# Altium integrated library Renesas Microcontroller H8S.IntLib: 670 symbols (part 38 of 70)
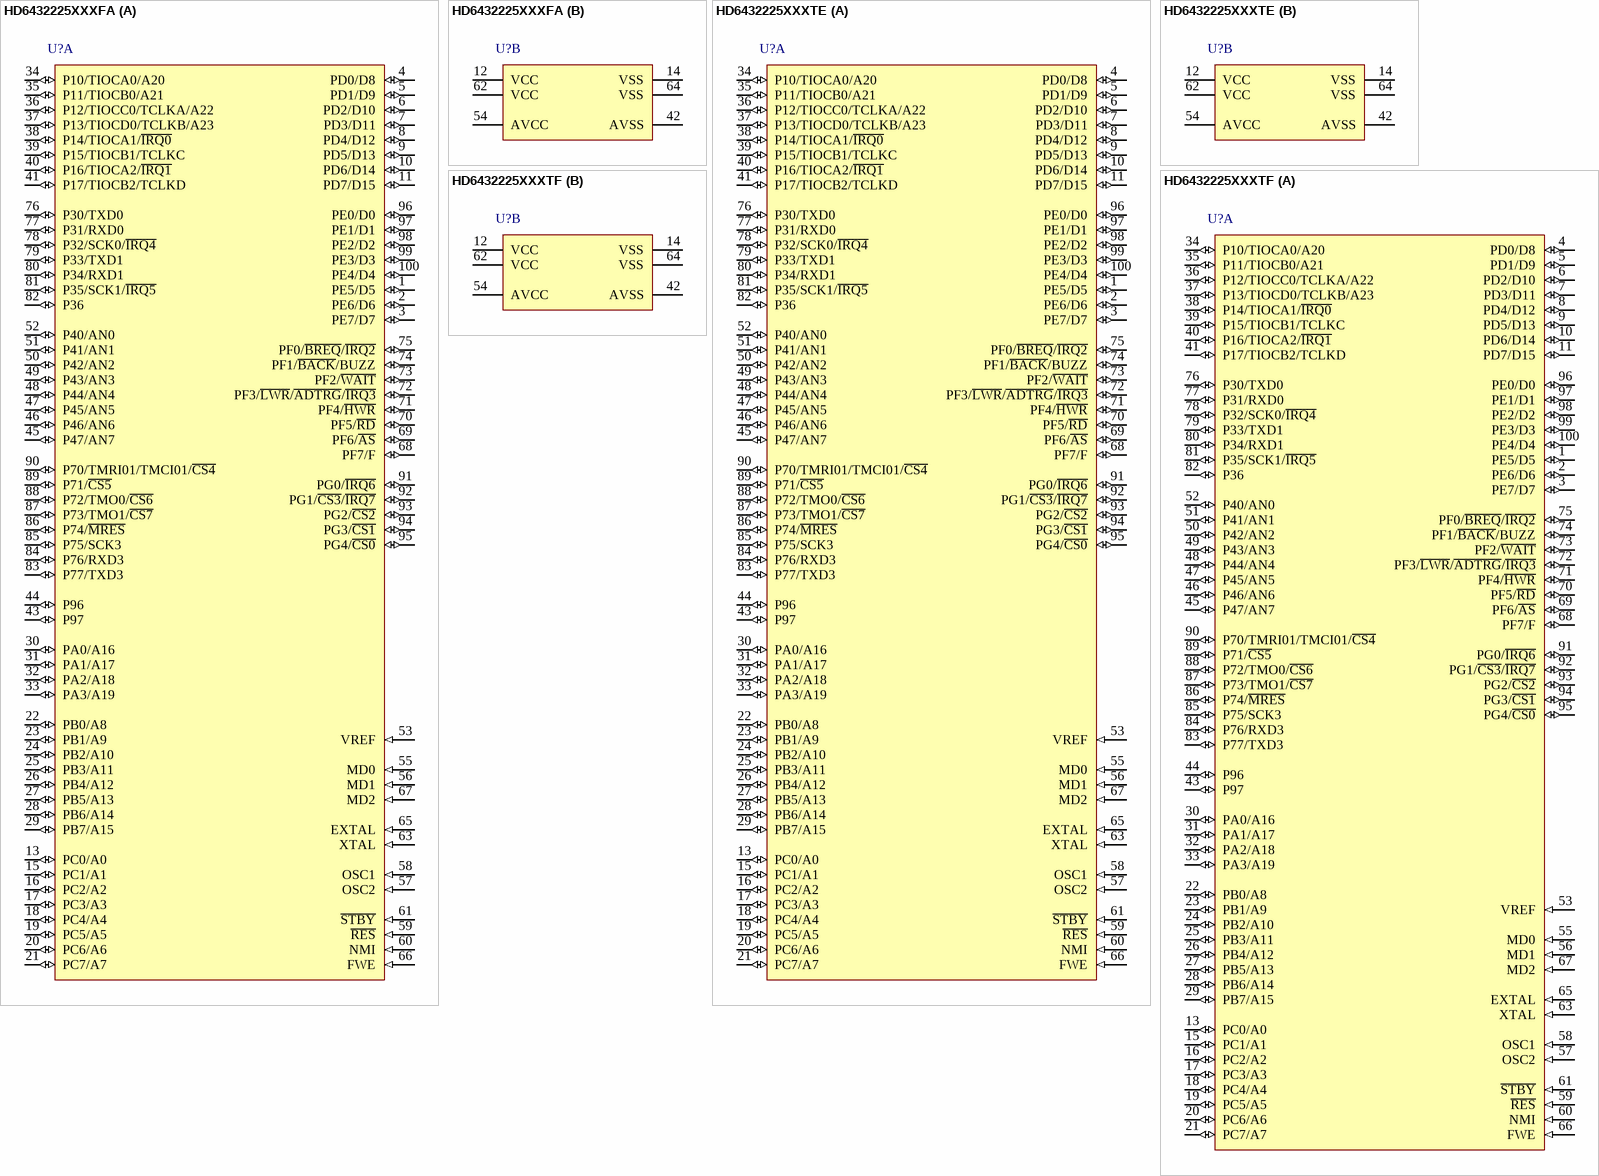
[diagram p363: symbols HD6432225XXXFA to HD6432225XXXTF]

## HD6432225XXXTF
designator U?
Mask ROM H8S/2200 Series, 2227 Group MCU, 128K ROM, 4K RAM, TFP-100G Pkg; Published: 28-Aug-2009; DatasheetVersion: Rev.5.00, Aug-2006; PackageVersion: Sep-2005; PackageReference: PTQP0100LC-A; Publisher: Altium Limited; PackageDescription: 100-Pin Plastic Thin QFP, 12 x 12 x 1.0 mm Body, 0.4 mm Pitch; Code_JEITA: P-TQFP100-12x12-0.40; ComponentLink1Description: Manufacturer Link; ComponentLink1URL: http://sg.renesas.com/fmwk.jsp?cnt=h8s_family_landing.jsp&fp=/products/mpumcu/h8s_family/; ComponentLink2Description: Datasheet; ComponentLink2URL: http://documentation.renesas.com/eng/products/mpumcu/rej09b0054_h8s2239.pdf; ComponentLink3Description: Packaging Specification; ComponentLink3URL: http://sg.renesas.com/media/products/common_info/package/pdf/ic/code/ptqp0100lc_a.pdf
footprint PTQP0100LC-A_N (Thin QFP, 100-Leads, Body 12x12mm, Pitch 0.4mm, IPC Medium Density)
footprint PTQP0100LC-A_L (Thin QFP, 100-Leads, Body 12x12mm, Pitch 0.4mm, IPC High Density)
footprint PTQP0100LC-A_M (Thin QFP, 100-Leads, Body 12x12mm, Pitch 0.4mm, IPC Low Density)
part A pins: 1 PE5/D5 (io), 2 PE6/D6 (io), 3 PE7/D7 (io), 4 PD0/D8 (io), 5 PD1/D9 (io), 6 PD2/D10 (io), 7 PD3/D11 (io), 8 PD4/D12 (io), 9 PD5/D13 (io), 10 PD6/D14 (io), 11 PD7/D15 (io), 13 PC0/A0 (io), 15 PC1/A1 (io), 16 PC2/A2 (io), 17 PC3/A3 (io), 18 PC4/A4 (io), 19 PC5/A5 (io), 20 PC6/A6 (io), 21 PC7/A7 (io), 22 PB0/A8 (io), 23 PB1/A9 (io), 24 PB2/A10 (io), 25 PB3/A11 (io), 26 PB4/A12 (io), 27 PB5/A13 (io), 28 PB6/A14 (io), 29 PB7/A15 (io), 30 PA0/A16 (io), 31 PA1/A17 (io), 32 PA2/A18 (io), 33 PA3/A19 (io), 34 P10/TIOCA0/A20 (io), 35 P11/TIOCB0/A21 (io), 36 P12/TIOCC0/TCLKA/A22 (io), 37 P13/TIOCD0/TCLKB/A23 (io), 38 P14/TIOCA1/~{IRQ0} (io), 39 P15/TIOCB1/TCLKC (io), 40 P16/TIOCA2/~{IRQ1} (io), 41 P17/TIOCB2/TCLKD (io), 43 P97 (io), 44 P96 (io), 45 P47/AN7 (io), 46 P46/AN6 (io), 47 P45/AN5 (io), 48 P44/AN4 (io), 49 P43/AN3 (io), 50 P42/AN2 (io), 51 P41/AN1 (io), 52 P40/AN0 (io), 53 VREF (in), 55 MD0 (in), 56 MD1 (in), 57 OSC2 (in), 58 OSC1 (in), 59 ~{RES} (in), 60 NMI (in), 61 ~{STBY} (in), 63 XTAL (in), 65 EXTAL (in), 66 FWE (in), 67 MD2 (in), 68 PF7/F (io), 69 PF6/~{AS} (io), 70 PF5/~{RD} (io), 71 PF4/~{HWR} (io), 72 PF3/~{LWR}/~{ADTRG}/~{IRQ3} (io), 73 PF2/~{WAIT} (io), 74 PF1/~{BACK}/BUZZ (io), 75 PF0/~{BREQ}/~{IRQ2} (io), 76 P30/TXD0 (io), 77 P31/RXD0 (io), 78 P32/SCK0/~{IRQ4} (io), 79 P33/TXD1 (io), 80 P34/RXD1 (io), 81 P35/SCK1/~{IRQ5} (io), 82 P36 (io), 83 P77/TXD3 (io), 84 P76/RXD3 (io), 85 P75/SCK3 (io), 86 P74/~{MRES} (io), 87 P73/TMO1/~{CS7} (io), 88 P72/TMO0/~{CS6} (io), 89 P71/~{CS5} (io), 90 P70/TMRI01/TMCI01/~{CS4} (io), 91 PG0/~{IRQ6} (io), 92 PG1/~{CS3}/~{IRQ7} (io), 93 PG2/~{CS2} (io), 94 PG3/~{CS1} (io), 95 PG4/~{CS0} (io), 96 PE0/D0 (io), 97 PE1/D1 (io), 98 PE2/D2 (io), 99 PE3/D3 (io), 100 PE4/D4 (io)
part B pins: 12 VCC (power), 14 VSS (power), 42 AVSS (power), 54 AVCC (power), 62 VCC (power), 64 VSS (power)

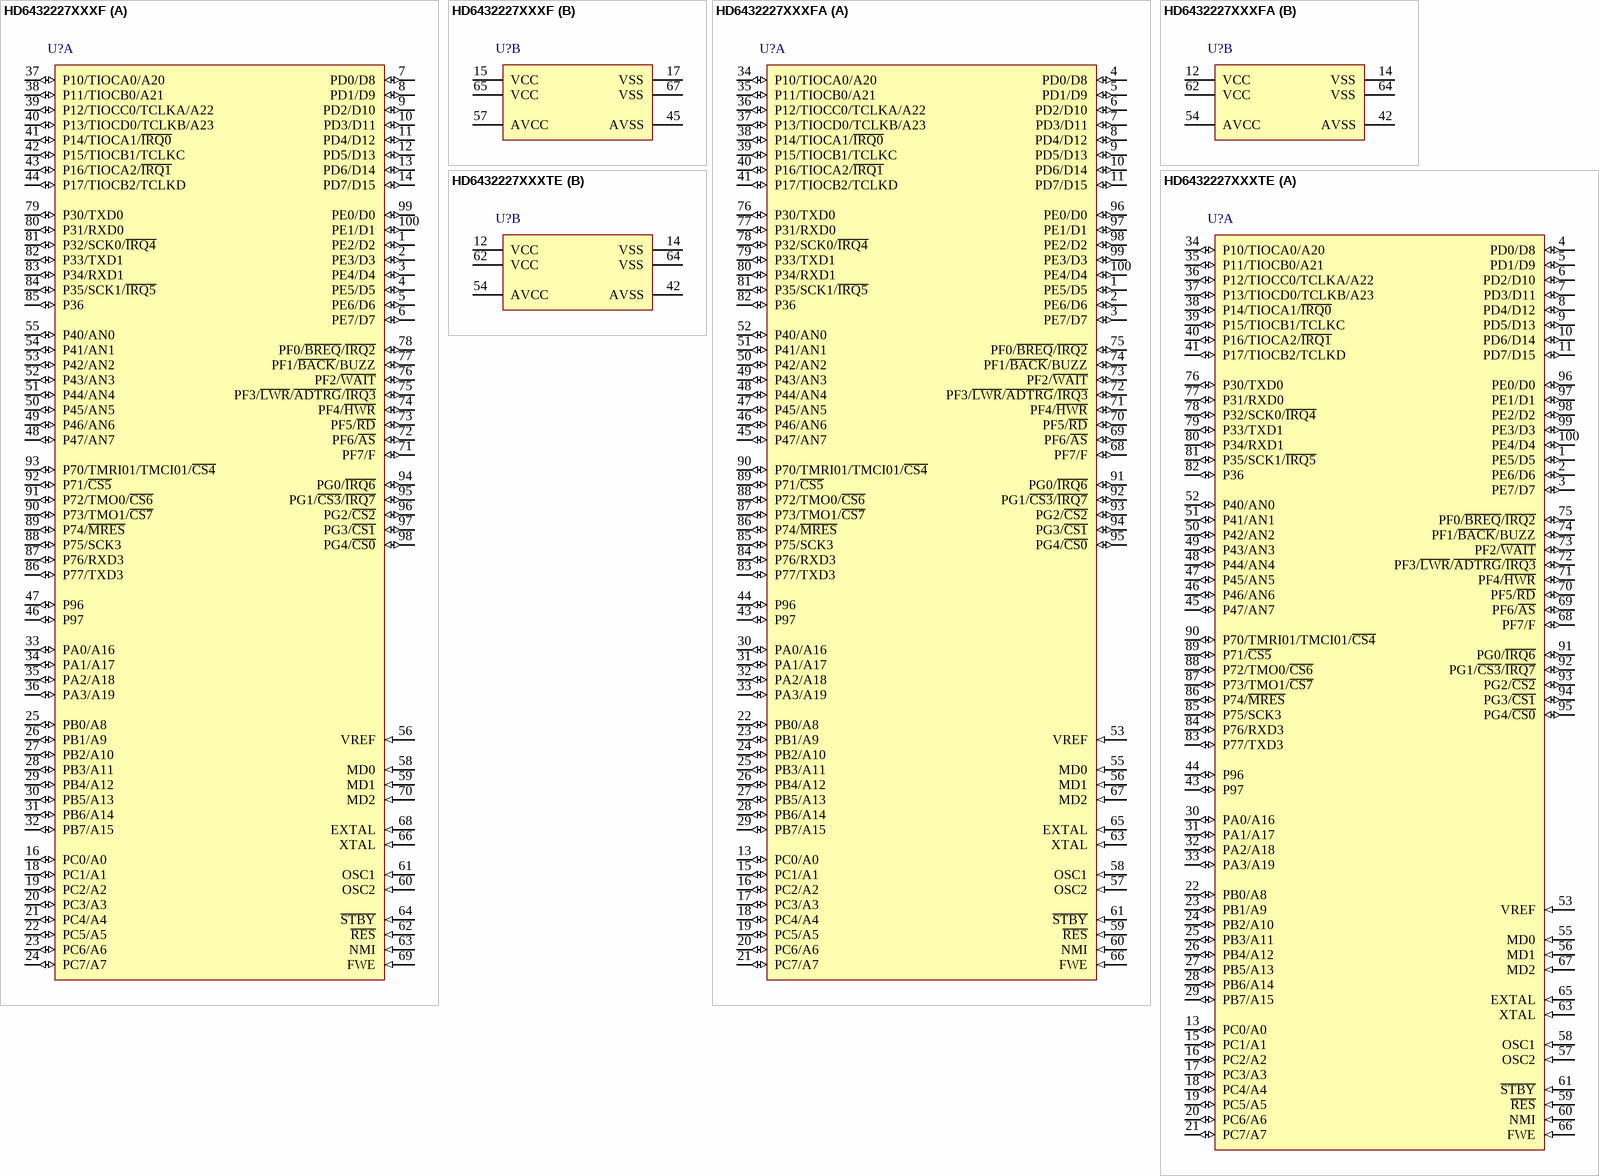
[diagram p132: symbols HD6432227XXXF to HD6432227XXXTE]

## HD6432227XXXF
designator U?
Mask ROM H8S/2200 Series, 2227 Group MCU, 128K ROM, 16K RAM, FP-100A Pkg; Published: 28-Aug-2009; DatasheetVersion: Rev.5.00, Aug-2006; PackageVersion: Sep-2005; PackageReference: PRQP0100JE-B; Publisher: Altium Limited; PackageDescription: 100-Pin Plastic Quad Flat Pack, 20 x 14 x 2.7 mm Body, 0.65 mm Pitch; Code_JEITA: P-QFP100-14x20-0.65; ComponentLink1Description: Manufacturer Link; ComponentLink1URL: http://sg.renesas.com/fmwk.jsp?cnt=h8s_family_landing.jsp&fp=/products/mpumcu/h8s_family/; ComponentLink2Description: Datasheet; ComponentLink2URL: http://documentation.renesas.com/eng/products/mpumcu/rej09b0054_h8s2239.pdf; ComponentLink3Description: Packaging Specification; ComponentLink3URL: http://sg.renesas.com/media/products/common_info/package/pdf/ic/code/prqp0100je_b.pdf
footprint PRQP0100JE-B_N (QFP, 100-Leads, Body 20x14mm, Pitch 0.65mm, IPC Medium Density)
footprint PRQP0100JE-B_L (QFP, 100-Leads, Body 20x14mm, Pitch 0.65mm, IPC High Density)
footprint PRQP0100JE-B_M (QFP, 100-Leads, Body 20x14mm, Pitch 0.65mm, IPC Low Density)
part A pins: 1 PE2/D2 (io), 2 PE3/D3 (io), 3 PE4/D4 (io), 4 PE5/D5 (io), 5 PE6/D6 (io), 6 PE7/D7 (io), 7 PD0/D8 (io), 8 PD1/D9 (io), 9 PD2/D10 (io), 10 PD3/D11 (io), 11 PD4/D12 (io), 12 PD5/D13 (io), 13 PD6/D14 (io), 14 PD7/D15 (io), 16 PC0/A0 (io), 18 PC1/A1 (io), 19 PC2/A2 (io), 20 PC3/A3 (io), 21 PC4/A4 (io), 22 PC5/A5 (io), 23 PC6/A6 (io), 24 PC7/A7 (io), 25 PB0/A8 (io), 26 PB1/A9 (io), 27 PB2/A10 (io), 28 PB3/A11 (io), 29 PB4/A12 (io), 30 PB5/A13 (io), 31 PB6/A14 (io), 32 PB7/A15 (io), 33 PA0/A16 (io), 34 PA1/A17 (io), 35 PA2/A18 (io), 36 PA3/A19 (io), 37 P10/TIOCA0/A20 (io), 38 P11/TIOCB0/A21 (io), 39 P12/TIOCC0/TCLKA/A22 (io), 40 P13/TIOCD0/TCLKB/A23 (io), 41 P14/TIOCA1/~{IRQ0} (io), 42 P15/TIOCB1/TCLKC (io), 43 P16/TIOCA2/~{IRQ1} (io), 44 P17/TIOCB2/TCLKD (io), 46 P97 (io), 47 P96 (io), 48 P47/AN7 (io), 49 P46/AN6 (io), 50 P45/AN5 (io), 51 P44/AN4 (io), 52 P43/AN3 (io), 53 P42/AN2 (io), 54 P41/AN1 (io), 55 P40/AN0 (io), 56 VREF (in), 58 MD0 (in), 59 MD1 (in), 60 OSC2 (in), 61 OSC1 (in), 62 ~{RES} (in), 63 NMI (in), 64 ~{STBY} (in), 66 XTAL (in), 68 EXTAL (in), 69 FWE (in), 70 MD2 (in), 71 PF7/F (io), 72 PF6/~{AS} (io), 73 PF5/~{RD} (io), 74 PF4/~{HWR} (io), 75 PF3/~{LWR}/~{ADTRG}/~{IRQ3} (io), 76 PF2/~{WAIT} (io), 77 PF1/~{BACK}/BUZZ (io), 78 PF0/~{BREQ}/~{IRQ2} (io), 79 P30/TXD0 (io), 80 P31/RXD0 (io), 81 P32/SCK0/~{IRQ4} (io), 82 P33/TXD1 (io), 83 P34/RXD1 (io), 84 P35/SCK1/~{IRQ5} (io), 85 P36 (io), 86 P77/TXD3 (io), 87 P76/RXD3 (io), 88 P75/SCK3 (io), 89 P74/~{MRES} (io), 90 P73/TMO1/~{CS7} (io), 91 P72/TMO0/~{CS6} (io), 92 P71/~{CS5} (io), 93 P70/TMRI01/TMCI01/~{CS4} (io), 94 PG0/~{IRQ6} (io), 95 PG1/~{CS3}/~{IRQ7} (io), 96 PG2/~{CS2} (io), 97 PG3/~{CS1} (io), 98 PG4/~{CS0} (io), 99 PE0/D0 (io), 100 PE1/D1 (io)
part B pins: 15 VCC (power), 17 VSS (power), 45 AVSS (power), 57 AVCC (power), 65 VCC (power), 67 VSS (power)

## HD6432227XXXFA
designator U?
Mask ROM H8S/2200 Series, 2227 Group MCU, 128K ROM, 16K RAM, FP-100B Pkg; Published: 28-Aug-2009; DatasheetVersion: Rev.5.00, Aug-2006; PackageVersion: Sep-2009; PackageReference: PRQP0100KA-A; Publisher: Altium Limited; PackageDescription: 100-Pin Plastic Quad Flat Pack, 14 x 14 x 2.7 mm Body, 0.5 mm Pitch; Code_JEITA: P-QFP100-14x14-0.50; ComponentLink1Description: Manufacturer Link; ComponentLink1URL: http://sg.renesas.com/fmwk.jsp?cnt=h8s_family_landing.jsp&fp=/products/mpumcu/h8s_family/; ComponentLink2Description: Datasheet; ComponentLink2URL: http://documentation.renesas.com/eng/products/mpumcu/rej09b0054_h8s2239.pdf; ComponentLink3Description: Packaging Specification; ComponentLink3URL: http://sg.renesas.com/media/products/common_info/package/pdf/ic/code/prqp0100ka_a.pdf
footprint PRQP0100KA-A_N (Shrink QFP, 100-Leads, Body 14x14mm, Pitch 0.5mm, IPC Medium Density)
footprint PRQP0100KA-A_L (Shrink QFP, 100-Leads, Body 14x14mm, Pitch 0.5mm, IPC High Density)
footprint PRQP0100KA-A_M (Shrink QFP, 100-Leads, Body 14x14mm, Pitch 0.5mm, IPC Low Density)
part A pins: 1 PE5/D5 (io), 2 PE6/D6 (io), 3 PE7/D7 (io), 4 PD0/D8 (io), 5 PD1/D9 (io), 6 PD2/D10 (io), 7 PD3/D11 (io), 8 PD4/D12 (io), 9 PD5/D13 (io), 10 PD6/D14 (io), 11 PD7/D15 (io), 13 PC0/A0 (io), 15 PC1/A1 (io), 16 PC2/A2 (io), 17 PC3/A3 (io), 18 PC4/A4 (io), 19 PC5/A5 (io), 20 PC6/A6 (io), 21 PC7/A7 (io), 22 PB0/A8 (io), 23 PB1/A9 (io), 24 PB2/A10 (io), 25 PB3/A11 (io), 26 PB4/A12 (io), 27 PB5/A13 (io), 28 PB6/A14 (io), 29 PB7/A15 (io), 30 PA0/A16 (io), 31 PA1/A17 (io), 32 PA2/A18 (io), 33 PA3/A19 (io), 34 P10/TIOCA0/A20 (io), 35 P11/TIOCB0/A21 (io), 36 P12/TIOCC0/TCLKA/A22 (io), 37 P13/TIOCD0/TCLKB/A23 (io), 38 P14/TIOCA1/~{IRQ0} (io), 39 P15/TIOCB1/TCLKC (io), 40 P16/TIOCA2/~{IRQ1} (io), 41 P17/TIOCB2/TCLKD (io), 43 P97 (io), 44 P96 (io), 45 P47/AN7 (io), 46 P46/AN6 (io), 47 P45/AN5 (io), 48 P44/AN4 (io), 49 P43/AN3 (io), 50 P42/AN2 (io), 51 P41/AN1 (io), 52 P40/AN0 (io), 53 VREF (in), 55 MD0 (in), 56 MD1 (in), 57 OSC2 (in), 58 OSC1 (in), 59 ~{RES} (in), 60 NMI (in), 61 ~{STBY} (in), 63 XTAL (in), 65 EXTAL (in), 66 FWE (in), 67 MD2 (in), 68 PF7/F (io), 69 PF6/~{AS} (io), 70 PF5/~{RD} (io), 71 PF4/~{HWR} (io), 72 PF3/~{LWR}/~{ADTRG}/~{IRQ3} (io), 73 PF2/~{WAIT} (io), 74 PF1/~{BACK}/BUZZ (io), 75 PF0/~{BREQ}/~{IRQ2} (io), 76 P30/TXD0 (io), 77 P31/RXD0 (io), 78 P32/SCK0/~{IRQ4} (io), 79 P33/TXD1 (io), 80 P34/RXD1 (io), 81 P35/SCK1/~{IRQ5} (io), 82 P36 (io), 83 P77/TXD3 (io), 84 P76/RXD3 (io), 85 P75/SCK3 (io), 86 P74/~{MRES} (io), 87 P73/TMO1/~{CS7} (io), 88 P72/TMO0/~{CS6} (io), 89 P71/~{CS5} (io), 90 P70/TMRI01/TMCI01/~{CS4} (io), 91 PG0/~{IRQ6} (io), 92 PG1/~{CS3}/~{IRQ7} (io), 93 PG2/~{CS2} (io), 94 PG3/~{CS1} (io), 95 PG4/~{CS0} (io), 96 PE0/D0 (io), 97 PE1/D1 (io), 98 PE2/D2 (io), 99 PE3/D3 (io), 100 PE4/D4 (io)
part B pins: 12 VCC (power), 14 VSS (power), 42 AVSS (power), 54 AVCC (power), 62 VCC (power), 64 VSS (power)

## HD6432227XXXTE
designator U?
Mask ROM H8S/2200 Series, 2227 Group MCU, 128K ROM, 16K RAM, TFP-100B Pkg; Published: 28-Aug-2009; DatasheetVersion: Rev.5.00, Aug-2006; PackageVersion: Sep-2005; PackageReference: PTQP0100KA-A; Publisher: Altium Limited; PackageDescription: 100-Pin Plastic Thin Quad Flat Pack, 14 x 14 x 1.0 mm Body, 0.5 mm Pitch; Code_JEITA: P-TQFP100-14x14-0.50; ComponentLink1Description: Manufacturer Link; ComponentLink1URL: http://sg.renesas.com/fmwk.jsp?cnt=h8s_family_landing.jsp&fp=/products/mpumcu/h8s_family/; ComponentLink2Description: Datasheet; ComponentLink2URL: http://documentation.renesas.com/eng/products/mpumcu/rej09b0054_h8s2239.pdf; ComponentLink3Description: Packaging Specification; ComponentLink3URL: http://sg.renesas.com/media/products/common_info/package/pdf/ic/code/ptqp0100ka_a.pdf
footprint PTQP0100KA-A_N (Thin QFP, 100-Leads, Body 14x14mm, Pitch 0.5mm, IPC Medium Density)
footprint PTQP0100KA-A_L (Thin QFP, 100-Leads, Body 14x14mm, Pitch 0.5mm, IPC High Density)
footprint PTQP0100KA-A_M (Thin QFP, 100-Leads, Body 14x14mm, Pitch 0.5mm, IPC Low Density)
part A pins: 1 PE5/D5 (io), 2 PE6/D6 (io), 3 PE7/D7 (io), 4 PD0/D8 (io), 5 PD1/D9 (io), 6 PD2/D10 (io), 7 PD3/D11 (io), 8 PD4/D12 (io), 9 PD5/D13 (io), 10 PD6/D14 (io), 11 PD7/D15 (io), 13 PC0/A0 (io), 15 PC1/A1 (io), 16 PC2/A2 (io), 17 PC3/A3 (io), 18 PC4/A4 (io), 19 PC5/A5 (io), 20 PC6/A6 (io), 21 PC7/A7 (io), 22 PB0/A8 (io), 23 PB1/A9 (io), 24 PB2/A10 (io), 25 PB3/A11 (io), 26 PB4/A12 (io), 27 PB5/A13 (io), 28 PB6/A14 (io), 29 PB7/A15 (io), 30 PA0/A16 (io), 31 PA1/A17 (io), 32 PA2/A18 (io), 33 PA3/A19 (io), 34 P10/TIOCA0/A20 (io), 35 P11/TIOCB0/A21 (io), 36 P12/TIOCC0/TCLKA/A22 (io), 37 P13/TIOCD0/TCLKB/A23 (io), 38 P14/TIOCA1/~{IRQ0} (io), 39 P15/TIOCB1/TCLKC (io), 40 P16/TIOCA2/~{IRQ1} (io), 41 P17/TIOCB2/TCLKD (io), 43 P97 (io), 44 P96 (io), 45 P47/AN7 (io), 46 P46/AN6 (io), 47 P45/AN5 (io), 48 P44/AN4 (io), 49 P43/AN3 (io), 50 P42/AN2 (io), 51 P41/AN1 (io), 52 P40/AN0 (io), 53 VREF (in), 55 MD0 (in), 56 MD1 (in), 57 OSC2 (in), 58 OSC1 (in), 59 ~{RES} (in), 60 NMI (in), 61 ~{STBY} (in), 63 XTAL (in), 65 EXTAL (in), 66 FWE (in), 67 MD2 (in), 68 PF7/F (io), 69 PF6/~{AS} (io), 70 PF5/~{RD} (io), 71 PF4/~{HWR} (io), 72 PF3/~{LWR}/~{ADTRG}/~{IRQ3} (io), 73 PF2/~{WAIT} (io), 74 PF1/~{BACK}/BUZZ (io), 75 PF0/~{BREQ}/~{IRQ2} (io), 76 P30/TXD0 (io), 77 P31/RXD0 (io), 78 P32/SCK0/~{IRQ4} (io), 79 P33/TXD1 (io), 80 P34/RXD1 (io), 81 P35/SCK1/~{IRQ5} (io), 82 P36 (io), 83 P77/TXD3 (io), 84 P76/RXD3 (io), 85 P75/SCK3 (io), 86 P74/~{MRES} (io), 87 P73/TMO1/~{CS7} (io), 88 P72/TMO0/~{CS6} (io), 89 P71/~{CS5} (io), 90 P70/TMRI01/TMCI01/~{CS4} (io), 91 PG0/~{IRQ6} (io), 92 PG1/~{CS3}/~{IRQ7} (io), 93 PG2/~{CS2} (io), 94 PG3/~{CS1} (io), 95 PG4/~{CS0} (io), 96 PE0/D0 (io), 97 PE1/D1 (io), 98 PE2/D2 (io), 99 PE3/D3 (io), 100 PE4/D4 (io)
part B pins: 12 VCC (power), 14 VSS (power), 42 AVSS (power), 54 AVCC (power), 62 VCC (power), 64 VSS (power)

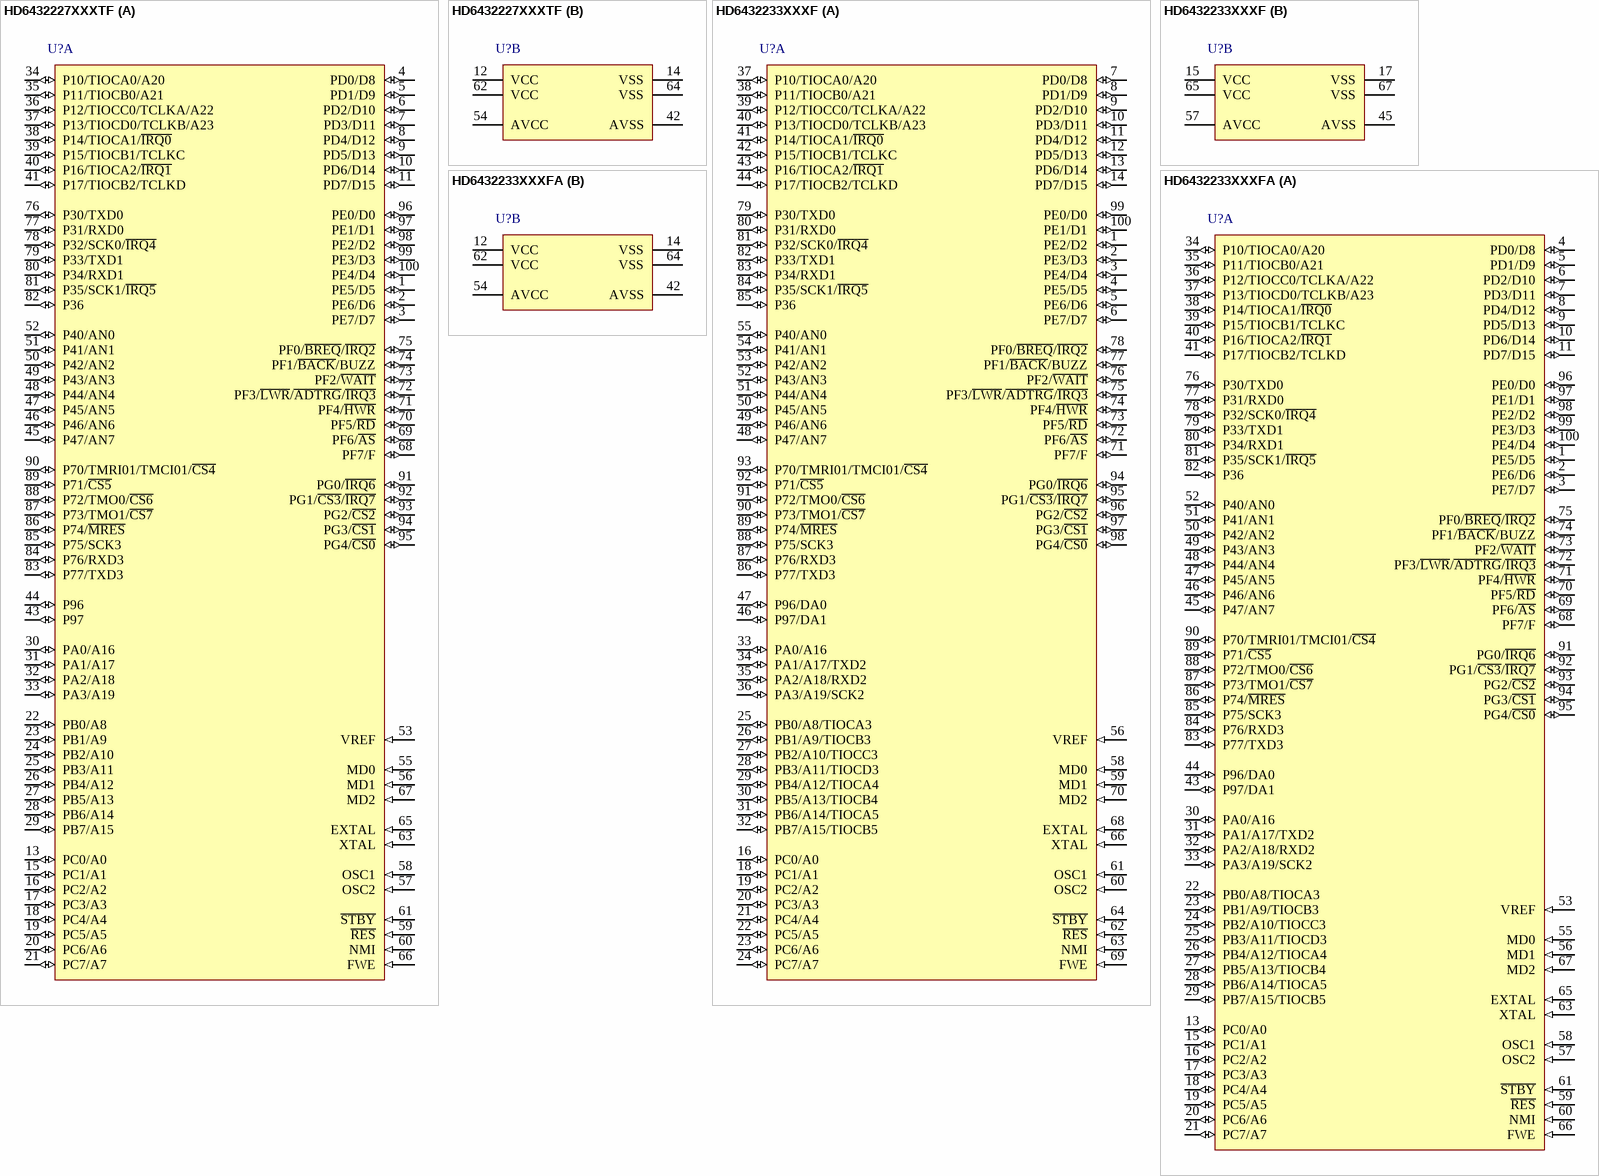
[diagram p133: symbols HD6432227XXXTF to HD6432233XXXFA]

## HD6432227XXXTF
designator U?
Mask ROM H8S/2200 Series, 2227 Group MCU, 128K ROM, 16K RAM, TFP-100G Pkg; Published: 28-Aug-2009; DatasheetVersion: Rev.5.00, Aug-2006; PackageVersion: Sep-2005; PackageReference: PTQP0100LC-A; Publisher: Altium Limited; PackageDescription: 100-Pin Plastic Thin QFP, 12 x 12 x 1.0 mm Body, 0.4 mm Pitch; Code_JEITA: P-TQFP100-12x12-0.40; ComponentLink1Description: Manufacturer Link; ComponentLink1URL: http://sg.renesas.com/fmwk.jsp?cnt=h8s_family_landing.jsp&fp=/products/mpumcu/h8s_family/; ComponentLink2Description: Datasheet; ComponentLink2URL: http://documentation.renesas.com/eng/products/mpumcu/rej09b0054_h8s2239.pdf; ComponentLink3Description: Packaging Specification; ComponentLink3URL: http://sg.renesas.com/media/products/common_info/package/pdf/ic/code/ptqp0100lc_a.pdf
footprint PTQP0100LC-A_N (Thin QFP, 100-Leads, Body 12x12mm, Pitch 0.4mm, IPC Medium Density)
footprint PTQP0100LC-A_L (Thin QFP, 100-Leads, Body 12x12mm, Pitch 0.4mm, IPC High Density)
footprint PTQP0100LC-A_M (Thin QFP, 100-Leads, Body 12x12mm, Pitch 0.4mm, IPC Low Density)
part A pins: 1 PE5/D5 (io), 2 PE6/D6 (io), 3 PE7/D7 (io), 4 PD0/D8 (io), 5 PD1/D9 (io), 6 PD2/D10 (io), 7 PD3/D11 (io), 8 PD4/D12 (io), 9 PD5/D13 (io), 10 PD6/D14 (io), 11 PD7/D15 (io), 13 PC0/A0 (io), 15 PC1/A1 (io), 16 PC2/A2 (io), 17 PC3/A3 (io), 18 PC4/A4 (io), 19 PC5/A5 (io), 20 PC6/A6 (io), 21 PC7/A7 (io), 22 PB0/A8 (io), 23 PB1/A9 (io), 24 PB2/A10 (io), 25 PB3/A11 (io), 26 PB4/A12 (io), 27 PB5/A13 (io), 28 PB6/A14 (io), 29 PB7/A15 (io), 30 PA0/A16 (io), 31 PA1/A17 (io), 32 PA2/A18 (io), 33 PA3/A19 (io), 34 P10/TIOCA0/A20 (io), 35 P11/TIOCB0/A21 (io), 36 P12/TIOCC0/TCLKA/A22 (io), 37 P13/TIOCD0/TCLKB/A23 (io), 38 P14/TIOCA1/~{IRQ0} (io), 39 P15/TIOCB1/TCLKC (io), 40 P16/TIOCA2/~{IRQ1} (io), 41 P17/TIOCB2/TCLKD (io), 43 P97 (io), 44 P96 (io), 45 P47/AN7 (io), 46 P46/AN6 (io), 47 P45/AN5 (io), 48 P44/AN4 (io), 49 P43/AN3 (io), 50 P42/AN2 (io), 51 P41/AN1 (io), 52 P40/AN0 (io), 53 VREF (in), 55 MD0 (in), 56 MD1 (in), 57 OSC2 (in), 58 OSC1 (in), 59 ~{RES} (in), 60 NMI (in), 61 ~{STBY} (in), 63 XTAL (in), 65 EXTAL (in), 66 FWE (in), 67 MD2 (in), 68 PF7/F (io), 69 PF6/~{AS} (io), 70 PF5/~{RD} (io), 71 PF4/~{HWR} (io), 72 PF3/~{LWR}/~{ADTRG}/~{IRQ3} (io), 73 PF2/~{WAIT} (io), 74 PF1/~{BACK}/BUZZ (io), 75 PF0/~{BREQ}/~{IRQ2} (io), 76 P30/TXD0 (io), 77 P31/RXD0 (io), 78 P32/SCK0/~{IRQ4} (io), 79 P33/TXD1 (io), 80 P34/RXD1 (io), 81 P35/SCK1/~{IRQ5} (io), 82 P36 (io), 83 P77/TXD3 (io), 84 P76/RXD3 (io), 85 P75/SCK3 (io), 86 P74/~{MRES} (io), 87 P73/TMO1/~{CS7} (io), 88 P72/TMO0/~{CS6} (io), 89 P71/~{CS5} (io), 90 P70/TMRI01/TMCI01/~{CS4} (io), 91 PG0/~{IRQ6} (io), 92 PG1/~{CS3}/~{IRQ7} (io), 93 PG2/~{CS2} (io), 94 PG3/~{CS1} (io), 95 PG4/~{CS0} (io), 96 PE0/D0 (io), 97 PE1/D1 (io), 98 PE2/D2 (io), 99 PE3/D3 (io), 100 PE4/D4 (io)
part B pins: 12 VCC (power), 14 VSS (power), 42 AVSS (power), 54 AVCC (power), 62 VCC (power), 64 VSS (power)